# EAGLE library part LTC4268-1 (library linear-technology)
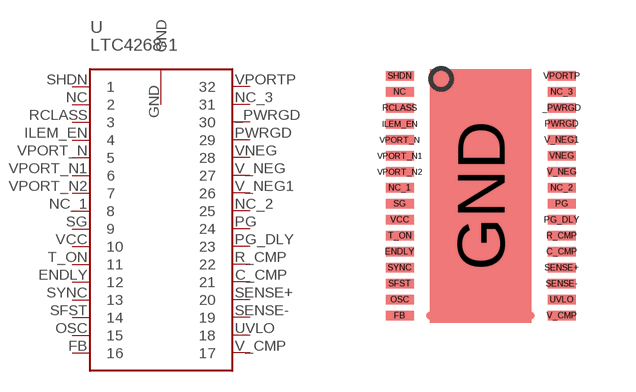
[diagram p22: symbol with the pads of DKD_32; footprint DKD_32]

Designator prefix -

## LTC4268-1  [DKD_32]
_PWRGD  30
C_CMP  21
ENDLY  12
FB  16
GND  GND
ILEM_EN  4
NC  2
NC_1  8
NC_2  25
NC_3  31
OSC  15
PG  24
PG_DLY  23
PWRGD  29
R_CMP  22
RCLASS  3
SENSE+  20
SENSE-  19
SFST  14
SG  9
SHDN  1
SYNC  13
T_ON  11
UVLO  18
V_CMP  17
V_NEG  27
V_NEG1  26
VCC  10
VNEG  28
VPORT_N  5
VPORT_N1  6
VPORT_N2  7
VPORTP  32

## Footprint DKD_32 (pad centres in mm)
smd 0.7 x 0.23: _PWRGD 2.027,2.2; C_CMP 2.027,-1.4; ENDLY -2.027,-1.4; FB -2.027,-3; ILEM_EN -2.027,1.8; NC -2.027,2.6; NC_1 -2.027,0.2; NC_2 2.027,0.2; NC_3 2.027,2.6; OSC -2.027,-2.6; PG 2.027,-0.2; PG_DLY 2.027,-0.6; PWRGD 2.027,1.8; R_CMP 2.027,-1; RCLASS -2.027,2.2; SENSE+ 2.027,-1.8; SENSE- 2.027,-2.2; SFST -2.027,-2.2; SG -2.027,-0.2; SHDN -2.027,3; SYNC -2.027,-1.8; T_ON -2.027,-1; UVLO 2.027,-2.6; V_CMP 2.027,-3; V_NEG 2.027,0.6; V_NEG1 2.027,1.4; VCC -2.027,-0.6; VNEG 2.027,1; VPORT_N -2.027,1.4; VPORT_N1 -2.027,1; VPORT_N2 -2.027,0.6; VPORTP 2.027,3
smd 2.54 x 6.35: GND 0,0